# Altium schematic symbol library Texas_Instruments_TPS62007DGS.SchLib: 1 symbol
Pins are listed as number, name and electrical type; pins without a type are passive.

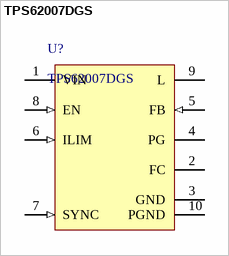
[diagram p0: symbol TPS62007DGS]

## TPS62007DGS
designator U?
Buck Step-Down Regulator with 2 V to 5.5 V Input and 3.3 V Output, -40 to 85 degC, 10-Pin MSOP (DGS), Green (RoHS & no Sb/Br); Manufacturer: Texas Instruments; Iq(Typ)(mA): 0.05; Vin(Min)(V): 2; Vout(Max)(V): 3.3; Duty Cycle(Max)(%): 100; Vin(Max)(V): 5.5; Rating: Catalog; Synchronous Rectification: TRUE; Regulated Outputs(#): 1; Switch Current Limit(Typ)(A): 1.6; Iout(Max)(A): 0.6; Preset Vout(V): 3.3; Eco-Plan: Green (RoHS & no Sb/Br); PartNumber: TPS62007DGS; SubFamily: Step-Down Regulator; ComponentLink1Description: Datasheet; ComponentLink2Description: Package Specification; Vout(Min)(V): 3.3; DatasheetVersion: SLVS294E; ComponentLink1URL: http://www.ti.com/general/docs/lit/getliterature.tsp?genericPartNumber=TPS62007&fileType=pdf; Code_JEDEC: MO-187-BA; ComponentLink2URL: http://www.ti.com/litv/pdf/mpds373; PackageReference: DGS10; PackageVersion: revC, Feb-2004; Mounting Technology: Surface Mount; Topology: Buck; PackageDescription: 10-Pin Thin Shrink Small Outline Package 0.5 mm Pitch
footprint DGS10_N
footprint DGS10_L
footprint DGS10_M
pins: 1 VIN (power) "Supply voltage input", 2 FC "Supply bypass pin. A 0.1 µF coupling capacitor should be connected as close as possible to this pin for good high frequency input voltage supply filtering.", 3 GND (power) "Ground", 4 PG (hiz) "Power good comparator output. This is an open-drain output. A pullup resistor should be connected between PG and VO. The output goes active high when the output voltage is greater than 92% of the nominal value.", 5 FB (in) "Feedback pin for the fixed output voltage option. For the adjustable version an external resistive divider is connected to FB. The internal voltage divider is disabled for the adjustable version.", 6 ILIM (in) "Switch current limit. Connect ILIM to GND to set the switch current limit to typically 600 mA, or connect this pin to VIN to set the current limit to typically 1200 mA.", 7 SYNC (in) "Input for synchronization to external clock signal. Synchronizes the converter switching frequency to an external clock signal with CMOS level:SYNC = HIGH: Low-noise mode enabled, fixed frequency PWM operation is forced SYNC (See Datasheet)", 8 EN (in) "Enable. A logic high enables the converter, logic low forces the device into shutdown mode reducing the supply current to less than 1 uA.", 9 L (power) "Connect the inductor to this pin. L is the switch pin connected to the drain of the internal power MOSFETS.", 10 PGND (power) "Power ground. Connect all power grounds to PGND."